# Altium footprint library NDS332P.PcbLib: 3 footprints
Each footprint in its own frame and in the unit in brackets; x right, y up, seen from the top. Pads: shape width x height; smd on the part's side, far side on the other; paste and mask are expansions set on the pad; w line width, h text height; cw(c..) or ccw(c..) is an arc to the next point about the centre after c.
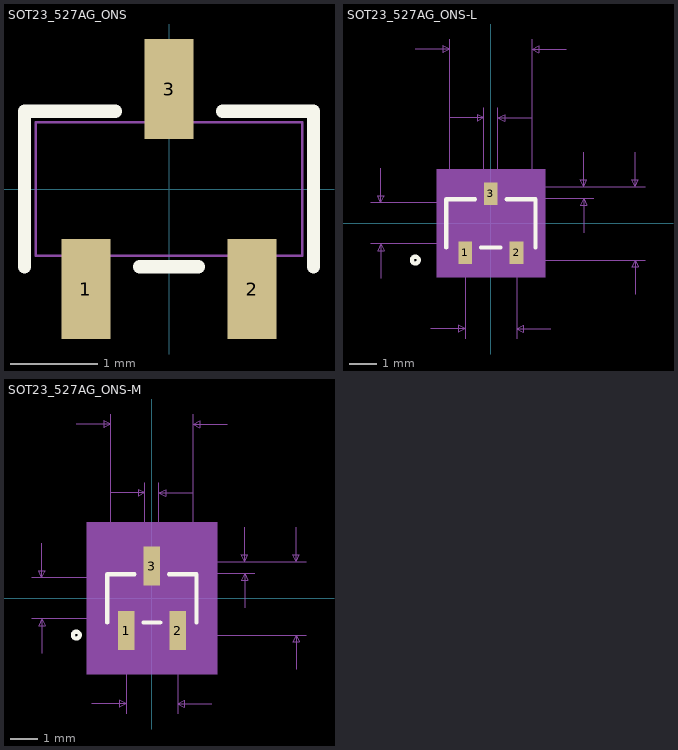
[diagram p0: the footprints below, top view; thin cyan lines are the x and y axes]

## SOT23_527AG_ONS [mil]
pads (3):
  rect 22x45 smd paste+0 mask+0: 1(-37.4,-45) 2(37.4,-45) 3(0,45)
Top Overlay:
  lines w6: -65,-35 -65,35 -24.1,35 ; -13.3,-35 13.3,-35 ; 24.1,35 65,35 65,-35
Mechanical 13:
  lines w1: -60,-30 -60,30 60,30 60,-30 -60,-30 ; -47.4,-53.5 -27.4,-53.5 -27.4,-30 -47.4,-30 -47.4,-53.5 ; -10,30 -10,53.5 10,53.5 10,30 -10,30 ; 27.4,-53.5 47.4,-53.5 47.4,-30 27.4,-30 27.4,-53.5
3D body: height 30, standoff 0, extent -60,-30 60,30

## SOT23_527AG_ONS-L [mil]
pads (3):
  rect 20x33 smd paste+0 mask+0: 1(-37.4,-43) 2(37.4,-43) 3(0,43)
Top Overlay:
  circle w6: c-110,-53.5 r5
  lines w6: -65,-35 -65,35 -23.1,35 ; -14.3,-35 14.3,-35 ; 23.1,35 65,35 65,-35
Mechanical 5:
  region: -79,78.5 79,78.5 79,-78.5 -79,-78.5
Mechanical 7:
  lines w1: -175,-30 0,-30 ; -175,30 0,30 ; -160,-80 -160,-30 ; -160,80 -160,30 ; -110,253.5 -60,253.5 ; -87.4,-153.5 -37.4,-153.5 ; -60,30 -60,268.5 ; -60,153.5 -10,153.5 ; -37.4,-168.5 -37.4,-53.5 ; -10,53.5 -10,168.5 ; 0,-53.5 225,-53.5 ; 0,36.5 150,36.5 ; 10,53.5 10,168.5 ; 37.4,-168.5 37.4,-53.5 ; 60,30 60,268.5 ; 60,153.5 10,153.5 ; 87.4,-153.5 37.4,-153.5 ; 110,253.5 60,253.5 ; 135,-13.5 135,36.5 ; 135,103.5 135,53.5 ; 150,53.5 0,53.5 225,53.5 ; 210,-103.5 210,-53.5 ; 210,103.5 210,53.5 ; -160,-30 -165,-40 -155,-40 -160,-30 ; -160,30 -165,40 -155,40 -160,30 ; -60,253.5 -70,258.5 -70,248.5 -60,253.5 ; -37.4,-153.5 -47.4,-148.5 -47.4,-158.5 -37.4,-153.5 ; -10,153.5 -20,158.5 -20,148.5 -10,153.5 ; 10,153.5 20,158.5 20,148.5 10,153.5 ; 37.4,-153.5 47.4,-148.5 47.4,-158.5 37.4,-153.5 ; 60,253.5 70,258.5 70,248.5 60,253.5 ; 135,36.5 130,26.5 140,26.5 135,36.5 ; 135,53.5 130,63.5 140,63.5 135,53.5 ; 210,-53.5 205,-63.5 215,-63.5 210,-53.5 ; 210,53.5 205,63.5 215,63.5 210,53.5
  text "Top Padstyle: RX20Y33D0T" at -300,-309.5 h50
  text "Bottom Padstyle: RX20Y33D0T" at -337.5,-384.5 h50
  text "Alt 1 Padstyle: OX60Y90D30P" at -337.5,-459.5 h50
  text "Alt 2 Padstyle: OX90Y60D30P" at -337.5,-534.5 h50
  text "0.107in/2.718mm" at 230,-12.5 h25
  text "0.017in/0.432mm" at 155,32.5 h25
  text "0.075in/1.9mm" at -81.25,-198.5 h25
  text "0.02in/0.508mm" at -87.5,173.5 h25
  text "0.12in/3.048mm" at -87.5,273.5 h25
  text "0.06in/1.524mm" at -355,-12.5 h25
Mechanical 13:
  circle w0: c-50,-20 r5
  lines w1: -60,-30 60,-30 60,30 -60,30 -60,-30 ; -47.4,-53.5 -47.4,-30 -27.4,-30 -27.4,-53.5 -47.4,-53.5 ; -10,30 10,30 10,53.5 -10,53.5 -10,30 ; 27.4,-53.5 27.4,-30 47.4,-30 47.4,-53.5 27.4,-53.5
Mechanical 15:
  region: -64,-34 -64,34 -14,34 -14,63.5 14,63.5 14,34 64,34 64,-34 51.4,-34 51.4,-63.5 -51.4,-63.5 -51.4,-34
  region: 60,-30 -60,-30 -60,30 60,30
  lines w6: -64,-34 -64,34 -14,34 -14,63.5 14,63.5 14,34 64,34 64,-34 51.4,-34 51.4,-63.5 -51.4,-63.5 -51.4,-34 -64,-34
3D body: height 10, standoff 0, extent 0,0 10,10

## SOT23_527AG_ONS-M [mil]
pads (3):
  rect 24x57 smd paste+0 mask+0: 1(-37.4,-47) 2(37.4,-47) 3(0,47)
Top Overlay:
  circle w6: c-110,-53.5 r5
  lines w6: -65,-35 -65,35 -25.1,35 ; -12.3,-35 12.3,-35 ; 25.1,35 65,35 65,-35
Mechanical 5:
  region: -95,110.5 95,110.5 95,-110.5 -95,-110.5
Mechanical 7:
  lines w1: -175,-30 0,-30 ; -175,30 0,30 ; -160,-80 -160,-30 ; -160,80 -160,30 ; -110,253.5 -60,253.5 ; -87.4,-153.5 -37.4,-153.5 ; -60,30 -60,268.5 ; -60,153.5 -10,153.5 ; -37.4,-168.5 -37.4,-53.5 ; -10,53.5 -10,168.5 ; 0,-53.5 225,-53.5 ; 0,36.5 150,36.5 ; 10,53.5 10,168.5 ; 37.4,-168.5 37.4,-53.5 ; 60,30 60,268.5 ; 60,153.5 10,153.5 ; 87.4,-153.5 37.4,-153.5 ; 110,253.5 60,253.5 ; 135,-13.5 135,36.5 ; 135,103.5 135,53.5 ; 150,53.5 0,53.5 225,53.5 ; 210,-103.5 210,-53.5 ; 210,103.5 210,53.5 ; -160,-30 -165,-40 -155,-40 -160,-30 ; -160,30 -165,40 -155,40 -160,30 ; -60,253.5 -70,258.5 -70,248.5 -60,253.5 ; -37.4,-153.5 -47.4,-148.5 -47.4,-158.5 -37.4,-153.5 ; -10,153.5 -20,158.5 -20,148.5 -10,153.5 ; 10,153.5 20,158.5 20,148.5 10,153.5 ; 37.4,-153.5 47.4,-148.5 47.4,-158.5 37.4,-153.5 ; 60,253.5 70,258.5 70,248.5 60,253.5 ; 135,36.5 130,26.5 140,26.5 135,36.5 ; 135,53.5 130,63.5 140,63.5 135,53.5 ; 210,-53.5 205,-63.5 215,-63.5 210,-53.5 ; 210,53.5 205,63.5 215,63.5 210,53.5
  text "Top Padstyle: RX24Y57D0T" at -300,-325.5 h50
  text "Bottom Padstyle: RX24Y57D0T" at -337.5,-400.5 h50
  text "Alt 1 Padstyle: OX60Y90D30P" at -337.5,-475.5 h50
  text "Alt 2 Padstyle: OX90Y60D30P" at -337.5,-550.5 h50
  text "0.107in/2.718mm" at 230,-12.5 h25
  text "0.017in/0.432mm" at 155,32.5 h25
  text "0.075in/1.9mm" at -81.25,-198.5 h25
  text "0.02in/0.508mm" at -87.5,173.5 h25
  text "0.12in/3.048mm" at -87.5,273.5 h25
  text "0.06in/1.524mm" at -355,-12.5 h25
Mechanical 13:
  circle w0: c-50,-20 r5
  lines w1: -60,-30 60,-30 60,30 -60,30 -60,-30 ; -47.4,-53.5 -47.4,-30 -27.4,-30 -27.4,-53.5 -47.4,-53.5 ; -10,30 10,30 10,53.5 -10,53.5 -10,30 ; 27.4,-53.5 27.4,-30 47.4,-30 47.4,-53.5 27.4,-53.5
Mechanical 15:
  region: -80,-50 -80,50 -32,50 -32,95.5 32,95.5 32,50 80,50 80,-50 69.4,-50 69.4,-95.5 -69.4,-95.5 -69.4,-50
  region: 60,-30 -60,-30 -60,30 60,30
  lines w6: -80,-50 -80,50 -32,50 -32,95.5 32,95.5 32,50 80,50 80,-50 69.4,-50 69.4,-95.5 -69.4,-95.5 -69.4,-50 -80,-50
3D body: height 10, standoff 0, extent 0,0 10,10